# EAGLE library part 1X33_MOLEX_FPC (library PiB_connectors)
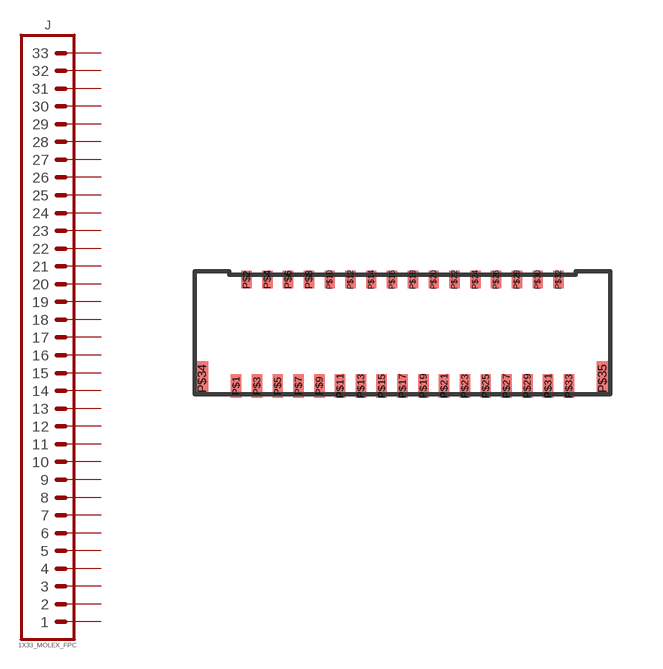
[diagram p12: symbol with the pads of _MOLEX-5025983393_FPC_PITCH-0.3MM; footprint _MOLEX-5025983393_FPC_PITCH-0.3MM]

Designator prefix J

## 1X33_MOLEX_FPC_FPC_RIBBON-CABLE (DATASHEET: https://www.molex.com/pdm_docs/sd/5025982593_sd.pdf; DATASHEET_CABLE: https://www.molex.com/pdm_docs/sd/150150423_sd.pdf; DIST: Digikey; DISTLINK: https://www.digikey.com/products/en?keywords=WM9775CT-ND; DISTLINK_CABLE: https://www.digikey.com/products/en?keywords=WM9647-ND; DISTPN: WM9775CT-ND; DISTPN_CABLE: WM9647-ND; DIST_CABLE: Digikey; MFR: Molex, LLC; MFR_CABLE: Molex, LLC; MPN: 5025983393; MPN_CABLE: 0150150233; VALUE: 1x33 Molex Connector)  [_MOLEX-5025983393_FPC_PITCH-0.3MM]
P$1  1  pas
P$2  2  pas
P$3  3  pas
P$4  4  pas
P$5  5  pas
P$6  6  pas
P$7  7  pas
P$8  8  pas
P$9  9  pas
P$10  10  pas
P$11  11  pas
P$12  12  pas
P$13  13  pas
P$14  14  pas
P$15  15  pas
P$16  16  pas
P$17  17  pas
P$18  18  pas
P$19  19  pas
P$20  20  pas
P$21  21  pas
P$22  22  pas
P$23  23  pas
P$24  24  pas
P$25  25  pas
P$26  26  pas
P$27  27  pas
P$28  28  pas
P$29  29  pas
P$30  30  pas
P$31  31  pas
P$32  32  pas
P$33  33  pas

## Footprint _MOLEX-5025983393_FPC_PITCH-0.3MM (pad centres in mm)
smd 0.3 x 0.67: P$1 -4.8,-1.532; P$3 -4.2,-1.532; P$5 -3.6,-1.532; P$7 -3,-1.532; P$9 -2.4,-1.532; P$11 -1.8,-1.532; P$13 -1.2,-1.532; P$15 -0.6,-1.532; P$17 0,-1.532; P$19 0.6,-1.532; P$21 1.2,-1.532; P$23 1.8,-1.532; P$25 2.4,-1.532; P$27 3,-1.532; P$29 3.6,-1.532; P$31 4.2,-1.532; P$33 4.8,-1.532
smd 0.3 x 0.5: P$2 -4.5,1.532; P$4 -3.9,1.532; P$6 -3.3,1.532; P$8 -2.7,1.532; P$10 -2.1,1.532; P$12 -1.5,1.532; P$14 -0.9,1.532; P$16 -0.3,1.532; P$18 0.3,1.532; P$20 0.9,1.532; P$22 1.5,1.532; P$24 2.1,1.532; P$26 2.7,1.532; P$28 3.3,1.532; P$30 3.9,1.532; P$32 4.5,1.532
smd 0.35 x 1: P$34 -5.775,-1.325; P$35 5.775,-1.325